# EAGLE library part 87832-1211 (library 87832-1211)
Molex MILLI-GRID 87832, 2mm Pitch, 12 Way, 2 Row, Straight PCB Header, Surface Mount Source: Datasheet <http://uk.rs-online.com/web/p/products/6701065P>
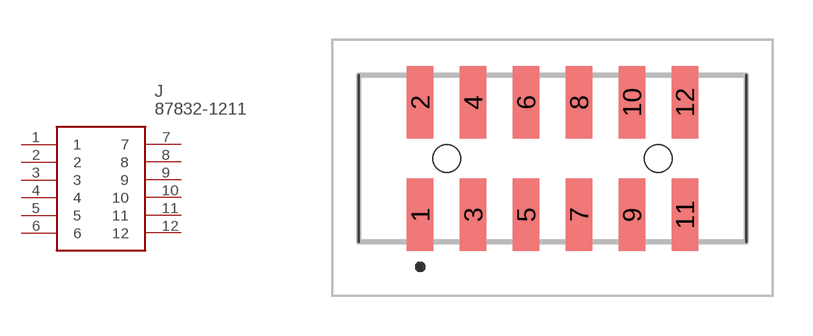
[diagram p0: symbol with the pads of 878321211; footprint 878321211]

Designator prefix J

## 87832-1211 (Description: Molex MILLI-GRID 87832, 2mm Pitch, 12 Way, 2 Row, Straight PCB Header, Surface Mount; Height: 6.6mm; Manufacturer_Name: Molex; Manufacturer_Part_Number: 87832-1211; RS_Part_Number: 6701065P; RS_Price-Stock: http://uk.rs-online.com/web/p/products/6701065P)  [878321211]
1  1
2  2
3  3
4  4
5  5
6  6
7  7
8  8
9  9
10  10
11  11
12  12

## Footprint 878321211 (pad centres in mm)
87832-1211-3
smd 1 x 2.75: 1 -5,-2.125; 2 -5,2.125; 3 -3,-2.125; 4 -3,2.125; 5 -1,-2.125; 6 -1,2.125; 7 1,-2.125; 8 1,2.125; 9 3,-2.125; 10 3,2.125; 11 5,-2.125; 12 5,2.125
hole 1.05 at -4,0.005
hole 1.05 at 4,0.005